# Altium schematic symbol library MainBoard.SCHLIB: 48 symbols
Pins are listed as number, name and electrical type; pins without a type are passive.

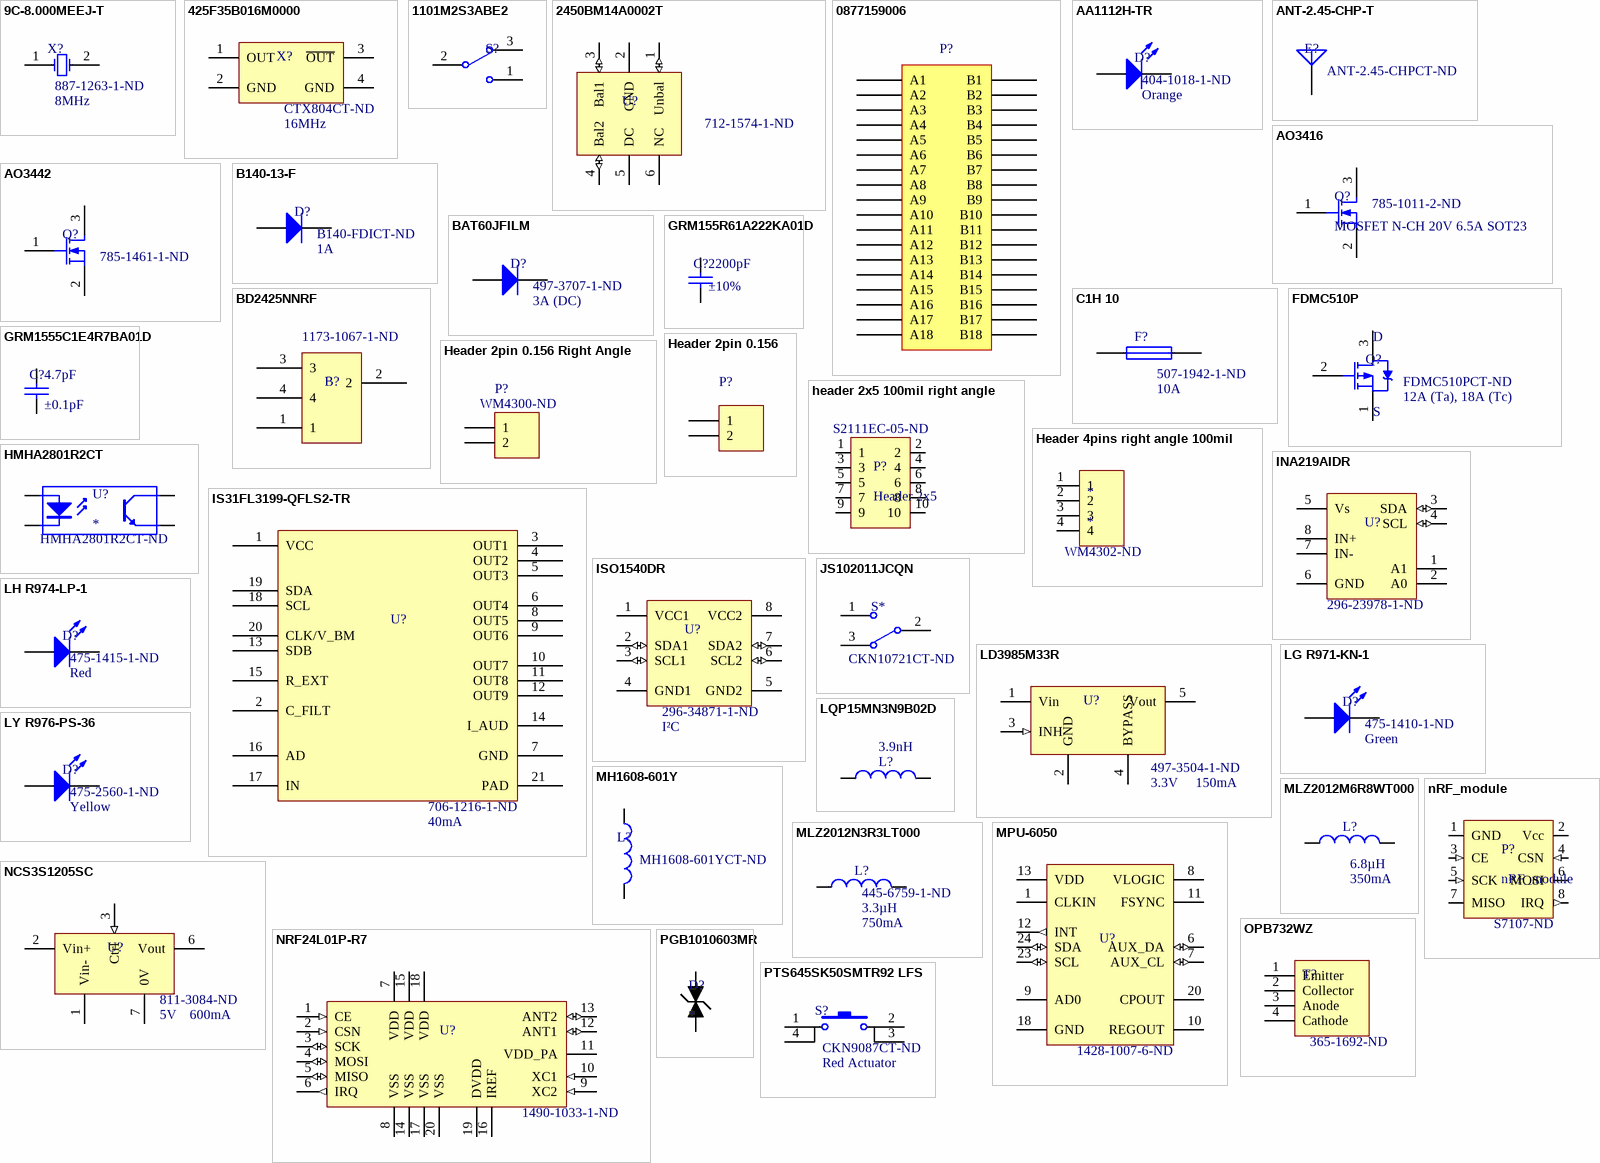
[diagram p0: symbols 9C-8.000MEEJ-T to PTS645SK50SMTR92 LFS]

## 9C-8.000MEEJ-T
designator X?  Supplier Part Number 1: 887-1263-1-ND  Frequency: 8MHz  (hidden comment: *)
CRYSTAL 8.0000MHZ 18PF SMD; Manufacturer: TXC CORPORATION; Manufacturer Part Number: 9C-8.000MEEJ-T; Frequency Stability: ±10ppm; ESR (Equivalent Series Resistance): 80 Ohm; Operating Mode: Fundamental; Supplier 1: Digi-Key; RoHS: RoHS Compliant; Category: Crystals and Oscillators; Stock 1: 25785; Pricing 1: 1=0.89, 10=0.749, 50=0.6746, 100=0.5996, 500=0.56958 (CAD); Packaging: Cut Tape (CT); Type: MHz Crystal; Frequency Tolerance: ±10ppm; Load Capacitance: 18pF; Operating Temperature: -20°C ~ 70°C; Ratings: -; Mounting Type: Surface Mount; Package / Case: HC49/US; Size / Dimension: 0.449" L x 0.189" W (11.40mm x 4.80mm); Height: 0.161" (4.10mm); ComponentLink1URL: http://www.txccrystal.com/images/pdf/9c-accuracy.pdf; ComponentLink1Description: http://www.txccrystal.com/images/pdf/9c-accuracy.pdf
footprint HC49/US (2-Leads, Body 11,40x4,35mm, IPC Medium Density)
pins: 1 OSC1, 2 OSC2

## 425F35B016M0000
designator X?  Supplier Part Number 1: CTX804CT-ND  Frequency: 16MHz  (hidden comment: *)
CRYSTAL 16.0000MHZ 13PF SMD; Manufacturer: CTS-Frequency Controls; Manufacturer Part Number: 425F35B016M0000; Frequency Stability: ±50ppm; Frequency Tolerance: ±30ppm; ESR (Equivalent Series Resistance): 100 Ohm; Operating Mode: Fundamental; Supplier 1: Digi-Key; RoHS: RoHS Compliant; Category: Crystals and Oscillators; Stock 1: 2963; Pricing 1: 1=1.41, 10=1.246, 50=1.1634, 100=1.0295, 500=0.97292, 750=0.92144, 1000=0.81334 (CAD); Packaging: Cut Tape (CT); Type: MHz Crystal; Load Capacitance: 13pF; Operating Temperature: -20°C ~ 70°C; Ratings: -; Mounting Type: Surface Mount; Package / Case: 4-SMD, No Lead (DFN, LCC); Size / Dimension: 0.098" L x 0.079" W (2.50mm x 2.00mm); Height: 0.026" (0.65mm); ComponentLink1URL: http://www.ctscorp.com/wp-content/uploads/2015/11/008-0332-0_B.pdf; ComponentLink1Description: http://www.ctscorp.com/wp-content/uploads/2015/11/008-0332-0_B.pdf
footprint QFN138P200X250X65-4N (QFN, 4-Leads, Body 2,00x2,50mm, Pitch 1,63mm/1,38mm, IPC Medium Density)
pins: 1 OUT (power), 2 GND (power), 3 ~{OUT} (power), 4 GND (power)

## 1101M2S3ABE2
designator S?  (value not drawn)
SWITCH SLIDE SPDT 0.4VA 20V; Manufacturer: C&K Components; Manufacturer Part Number: 1101M2S3ABE2; Contact Timing: Not Specified; Switch Function: On-On; Current Rating: 0.4VA (AC/DC); Actuator Type: Standard; Actuator Length: 4.72mm; Actuator Material: Polyamide (PA), Nylon; Switch Travel: 2.16mm; Electrical Life: 100,000 Cycles; Supplier 1: Digi-Key; RoHS: RoHS Compliant; Category: Switches; Stock 1: 1611; Pricing 1: 1=6.09, 10=5.952, 25=5.6872, 50=5.026, 100=4.9598, 250=4.89372, 500=4.034, 1000=3.76947, 5000=3.51818 (CAD); Packaging: Bulk; Part Status: Active; Circuit: SPDT; Voltage Rating - AC: 20V; Voltage Rating - DC: 20V; Contact Material: Copper; Contact Finish: Gold; Mounting Type: Through Hole, Right Angle; Termination Style: PC Pin; Features: Black Actuator, Epoxy Sealed Terminals; Operating Temperature: -30°C ~ 65°C; Mechanical Life: -; Operating Force: -; ComponentLink1URL: http://www.ck-components.com/media/1429/1000.pdf; ComponentLink1Description: http://www.ck-components.com/media/1429/1000.pdf; Supplier Part Number 1: CKN5005-ND
footprint C&K Switch
pins: 1, 2, 3

## 2450BM14A0002T
designator U?  Supplier Part Number 1: 712-1574-1-ND  (hidden comment: *)
NRF24L01 NRF24LE01 NRF8001 SMD; Manufacturer: Johanson Technology Inc.; Manufacturer Part Number: 2450BM14A0002T; Frequency Range: 2.4GHz ~ 2.5GHz; Impedance - Unbalanced/Balanced: 50 / - Ohm; Phase Difference: 160° ±15; Insertion Loss (Max): 2.0dB; Return Loss (Min): 9.5dB; Supplier 1: Digi-Key; RoHS: RoHS Compliant; Category: RF/IF and RFID; Stock 1: 6; Pricing 1: 1=1.41, 10=1.25, 25=1.1288, 100=0.9876, 250=0.8666, 500=0.76586, 1000=0.60462 (CAD); Packaging: Cut Tape (CT); Package / Case: 0603 (1608 Metric), 6 PC Pad; Mounting Type: Surface Mount; ComponentLink1URL: http://www.johansontechnology.com/datasheets/baluns/Balun_Filter_Matched_2450BM14A0002_v2.pdf; ComponentLink1Description: http://www.johansontechnology.com/datasheets/baluns/Balun_Filter_Matched_2450BM14A0002_v2.pdf
footprint LCCS50P160X80X70-6N (LCC, 6-Pins, Body 1,60x0,80mmx0,70mm, Pitch 0,50mm, IPC Medium Density)
pins: 1 Unbal (io), 2 GND (power), 3 Bal1 (io), 4 Bal2 (io), 5 DC (power), 6 NC

## 0877159006
designator P?  (value not drawn)
CONN PCI EXPRESS 36POS 1MM GOLD
footprint 0877159006 (PCI Express Edge Card Connector)
pins: A1, A2, A3, A4, A5, A6, A7, A8, A9, A10, A11, A12, A13, A14, A15, A16, A17, A18, B1, B2, B3, B4, B5, B6, B7, B8, B9, B10, B11, B12, B13, B14, B15, B16, B17, B18

## AA1112H-TR
designator D?  Supplier Part Number 1: 404-1018-1-ND  Color: Orange  (hidden comment: *)
LED ORANGE DIFFUSED 0805 SMD; Manufacturer: Stanley Electric Co; Manufacturer Part Number: AA1112H-TR; Lens Color: White; Millicandela Rating: 3.7mcd; Lens Style/Size: Rectangle with Flat Top, 1.20mm x 1.25mm; Voltage - Forward (Vf) (Typ): 2.2V; Current - Test: 20mA; Viewing Angle: 153°, 154°; Wavelength - Dominant: 606nm; Wavelength - Peak: 605nm; Supplier 1: Digi-Key; RoHS: RoHS Compliant; Category: Optoelectronics; Stock 1: 7828; Pricing 1: 1=0.65, 10=0.458, 25=0.3752, 100=0.3003, 250=0.2252, 1000=0.16379 (CAD); Packaging: Cut Tape (CT); Lens Transparency: Diffused; Mounting Type: Surface Mount; Features: -; Package / Case: 0805 (2012 Metric); Supplier Device Package: 2125; Size / Dimension: 2.00mm L x 1.25mm W; Height (Max): 0.90mm; ComponentLink1URL: http://media.digikey.com/pdf/Data%20Sheets/Stanley%20Electric%20PDFs/BR1112H.pdf; ComponentLink1Description: http://media.digikey.com/pdf/Data%20Sheets/Stanley%20Electric%20PDFs/BR1112H.pdf
footprint 0805 (Chip Capacitor, 2-Leads, Body 2,00x1,25mm, IPC Medium Density)
pins: 1 A, 2 K

## ANT-2.45-CHP-T
designator E?  Supplier Part Number 1: ANT-2.45-CHPCT-ND  (hidden comment: *)
ANT 2.4GHZ 802.11 BLUETOOTH SMD; Manufacturer: Linx Technologies Inc.; Manufacturer Part Number: ANT-2.45-CHP-T; Frequency Group: UHF (2 GHz ~ 3 GHz); Frequency Range: 2.36GHz ~ 2.54GHz; Antenna Type: Chip; Number of Bands: 1; VSWR: 2; Gain: 0.5dBi; Power - Max: 3W; Supplier 1: Digi-Key; RoHS: RoHS Compliant; Category: RF/IF and RFID; Stock 1: 30000; Pricing 1: 1=4.78, 10=4.317, 25=3.8676, 100=3.4774, 250=3.08772, 500=2.69802 (CAD); Packaging: Cut Tape (CT); Frequency (Center/Band): 2.4GHz; Return Loss: -; Features: -; Termination: Solder; Ingress Protection: -; Mounting Type: Surface Mount; Height (Max): 0.002" (0.04mm); Applications: Bluetooth, WLAN, Zigbee™; ComponentLink1URL: http://www.linxtechnologies.com/resources/data-guides/ant-xxx-chp-x.pdf; ComponentLink1Description: http://www.linxtechnologies.com/resources/data-guides/ant-xxx-chp-x.pdf
footprint ANT-2.45-CHP-x (Chip Antenna 2-Leads, Body 6,50x2,20mm, IPC Medium Density)
pins: 1 A

## AO3416
designator Q?, comment MOSFET N-CH 20V 6.5A SOT23  Supplier Part Number 1: 785-1011-2-ND
Supplier 1: Digi-Key
footprint SOT-23-3 (SOT23, 3-Leads, Body 2,90x2,45mm, Pitch 0,95mm, IPC Medium Density)
pins: 1 G, 2 S, 3 D

## AO3442
designator Q?  Supplier Part Number 1: 785-1461-1-ND  (hidden comment: *)
MOSFET N-CH 100V 1A SOT23; Manufacturer: Alpha & Omega Semiconductor Inc.; Manufacturer Part Number: AO3442; FET Type: MOSFET N-Channel, Metal Oxide; FET Feature: Standard; Current - Continuous Drain (Id) @ 25°C: 1A (Ta); Rds On (Max) @ Id, Vgs: 630 mOhm @ 1A, 10V; Vgs(th) (Max) @ Id: 2.9V @ 250µA; Gate Charge (Qg) @ Vgs: 6nC @ 10V; Input Capacitance (Ciss) @ Vds: 100pF @ 50V; Power - Max: 1.4W; Supplier 1: Digi-Key; RoHS: RoHS Compliant; Category: Discrete Semiconductor Products; Stock 1: 46021; Pricing 1: 1=0.75, 10=0.53, 25=0.4352, 100=0.3479, 250=0.25308, 500=0.20562, 1000=0.15816 (CAD); Packaging: Cut Tape (CT); Drain to Source Voltage (Vdss): 100V; Operating Temperature: -55°C ~ 150°C (TJ); Mounting Type: Surface Mount; Package / Case: TO-236-3, SC-59, SOT-23-3; Supplier Device Package: SOT-23-3L; ComponentLink1URL: http://aosmd.com/res/data_sheets/AO3442.pdf; ComponentLink1Description: http://aosmd.com/res/data_sheets/AO3442.pdf
footprint SOT-23-3 (SOT23, 3-Leads, Body 2,90x2,45mm, Pitch 0,95mm, IPC Medium Density)
pins: 1 G, 2 S, 3 D

## B140-13-F
designator D?  Supplier Part Number 1: B140-FDICT-ND  Current - Average Rectified (Io): 1A  (hidden comment: *)
DIODE SCHOTTKY 40V 1A SMA; Manufacturer: Diodes Incorporated; Manufacturer Part Number: B140-13-F; Voltage - Forward (Vf) (Max) @ If: 500mV @ 1A; Speed: Fast Recovery =< 500ns, > 200mA (Io); Current - Reverse Leakage @ Vr: 500µA @ 40V; Capacitance @ Vr, F: 110pF @ 4V, 1MHz; Supplier 1: Digi-Key; RoHS: RoHS Compliant; Category: Discrete Semiconductor Products; Stock 1: 278329; Pricing 1: 1=0.54, 10=0.441, 100=0.2337, 500=0.15366, 1000=0.1047 (CAD); Packaging: Cut Tape (CT); Diode Type: Schottky; Voltage - DC Reverse (Vr) (Max): 40V; Reverse Recovery Time (trr): -; Mounting Type: Surface Mount; Package / Case: DO-214AC, SMA; Supplier Device Package: SMA; Operating Temperature - Junction: -65°C ~ 150°C; ComponentLink1URL: http://www.diodes.com/_files/datasheets/ds13002.pdf; ComponentLink1Description: http://www.diodes.com/_files/datasheets/ds13002.pdf
footprint SMA (Molded Diode, 2-Leads, Body 4,30x2,60mm, IPC Medium Density)
pins: 1 A, 2 K

## BAT60JFILM
designator D?  Supplier Part Number 1: 497-3707-1-ND  Current - Average Rectified (Io): 3A (DC)  (hidden comment: *)
DIODE SCHOTTKY 10V 3A SOD323; Manufacturer: STMicroelectronics; Manufacturer Part Number: BAT60JFILM; Voltage - Forward (Vf) (Max) @ If: 580mV @ 1A; Speed: Fast Recovery =< 500ns, > 200mA (Io); Current - Reverse Leakage @ Vr: 6µA @ 10V; Supplier 1: Digi-Key; RoHS: RoHS Compliant; Category: Discrete Semiconductor Products; Stock 1: 29878; Pricing 1: 1=0.58, 10=0.434, 100=0.2451, 500=0.16256, 1000=0.12468 (CAD); Packaging: Cut Tape (CT); Diode Type: Schottky; Voltage - DC Reverse (Vr) (Max): 10V; Reverse Recovery Time (trr): -; Capacitance @ Vr, F: -; Mounting Type: Surface Mount; Package / Case: SC-76, SOD-323; Supplier Device Package: SOD-323; Operating Temperature - Junction: 150°C (Max); ComponentLink1URL: http://www.st.com/web/en/resource/technical/document/datasheet/CD00001944.pdf; ComponentLink1Description: http://www.st.com/web/en/resource/technical/document/datasheet/CD00001944.pdf
footprint SOD-323F (Molded Diode, 2-Leads, Body 1,70x1,25mm, IPC Medium Density)
pins: 1 A, 2 K

## BD2425NNRF
designator B?  Supplier Part Number 1: 1173-1067-1-ND  (hidden comment: *)
XFRMR BALUN RF 2400-2500MHZ 0404; Manufacturer: Anaren; Manufacturer Part Number: BD2425NNRF; Frequency Range: 2.4GHz ~ 2.525GHz; Impedance - Unbalanced/Balanced: 50 / - Ohm; Insertion Loss (Max): 1.25dB; Return Loss (Min): 18dB; Supplier 1: Digi-Key; RoHS: RoHS Compliant; Category: RF/IF and RFID; Stock 1: 7728; Pricing 1: 1=0.86, 10=0.838, 25=0.5604, 50=0.4992, 100=0.4572, 250=0.4102, 500=0.40166 (CAD); Packaging: Cut Tape (CT); Part Status: Active; Phase Difference: -; Package / Case: 0404 (1010 Metric); Mounting Type: Surface Mount; ComponentLink1URL: https://www.anaren.com/sites/default/files/BD2425NnRF%20Data%20Sheet%20Rev%20B_Final.pdf; ComponentLink1Description: https://www.anaren.com/sites/default/files/BD2425NnRF%20Data%20Sheet%20Rev%20B_Final.pdf
footprint BD2425NNRF
pins: 1, 2, 3, 4

## C1H 10
designator F?  Supplier Part Number 1: 507-1942-1-ND  Current Rating: 10A  (hidden comment: *)
FUSE BOARD MNT 10A 125VAC 32VDC; Manufacturer: Bel Fuse Inc.; Manufacturer Part Number: C1H 10; Fuse Type: Board Mount (Cartridge Style Excluded); Voltage Rating - AC: 125V; Voltage Rating - DC: 32V; Response Time: Fast; Breaking Capacity @ Rated Voltage: 150A; Melting I²t: 5.9; Approvals: cURus; DC Cold Resistance: 0.0039 Ohm; Supplier 1: Digi-Key; RoHS: RoHS Compliant; Category: Circuit Protection; Stock 1: 8694; Pricing 1: 1=0.47, 10=0.438, 25=0.4036, 100=0.363, 250=0.3232, 500=0.26932, 1000=0.25521, 2500=0.22828 (CAD); Packaging: Cut Tape (CT); Package / Case: 1206 (3216 Metric); Mounting Type: Surface Mount; Operating Temperature: -55°C ~ 125°C; Color: -; Size / Dimension: 0.126" L x 0.062" W x 0.026" H (3.20mm x 1.58mm x 0.65mm); ComponentLink1URL: http://belfuse.com/pdfs/C1H.pdf; ComponentLink1Description: http://belfuse.com/pdfs/C1H.pdf
footprint 1206 (Chip Resistor, 2-Leads, Body 3,20x1,58mm, IPC Medium Density)
pins: 1, 2

## FDMC510P
designator Q?  Supplier Part Number 1: FDMC510PCT-ND  Current - Continuous Drain (Id) @ 25°C: 12A (Ta), 18A (Tc)  (hidden comment: *)
MOSFET P-CH 20V 18A 8-MLP; Manufacturer: Fairchild Semiconductor; Manufacturer Part Number: FDMC510P; FET Type: MOSFET P-Channel, Metal Oxide; FET Feature: Standard; Rds On (Max) @ Id, Vgs: 8 mOhm @ 12A, 4.5V; Vgs(th) (Max) @ Id: 1V @ 250µA; Gate Charge (Qg) @ Vgs: 116nC @ 4.5V; Input Capacitance (Ciss) @ Vds: 7860pF @ 10V; Power - Max: 2.3W; Supplier 1: Digi-Key; RoHS: RoHS Compliant; Category: Discrete Semiconductor Products; Stock 1: 32424; Pricing 1: 1=2.03, 10=1.816, 100=1.4153, 500=1.17042, 1000=0.92559 (CAD); Packaging: Cut Tape (CT); Drain to Source Voltage (Vdss): 20V; Operating Temperature: -55°C ~ 150°C (TJ); Mounting Type: Surface Mount; Package / Case: 8-PowerWDFN; Supplier Device Package: 8-MLP (3.3x3.3); ComponentLink1URL: http://www.fairchildsemi.com/datasheets/FD/FDMC510P.pdf; ComponentLink1Description: http://www.fairchildsemi.com/datasheets/FD/FDMC510P.pdf
footprint PowerPAK 1212-8 (QFN, 10-Leads, Body 3,30x3,30mm, Pitch 0,65mm, Thermal Pad 2,11x2,11mm, IPC Medium Density)
pins: 1 S, 2 G, 3 D

## GRM155R61A222KA01D
designator C?  Tolerance: ±10%  Capacitance: 2200pF  (hidden comment: *)
CAP CER 2200PF 10V X5R 0402; Manufacturer: Murata Electronics North America; Manufacturer Part Number: GRM155R61A222KA01D; Supplier 1: Digi-Key; Supplier Part Number 1: 490-8251-1-ND; RoHS: RoHS Compliant; Category: Capacitors; Stock 1: 39963; Pricing 1: 1=0.14, 10=0.032, 50=0.0176, 100=0.0148, 250=0.01208, 500=0.01034, 1000=0.00805, 5000=0.00671 (CAD); Packaging: Cut Tape (CT); Part Status: Active; Voltage - Rated: 10V; Temperature Coefficient: X5R; Operating Temperature: -55°C ~ 85°C; Features: -; Ratings: -; Applications: General Purpose; Failure Rate: *; Mounting Type: Surface Mount, MLCC; Package / Case: 0402 (1005 Metric); Size / Dimension: 0.039" L x 0.020" W (1.00mm x 0.50mm); Height - Seated (Max): -; Thickness (Max): 0.022" (0.55mm); Lead Spacing: -; Lead Style: -; ComponentLink1URL: http://www.murata.com/~/media/webrenewal/support/library/catalog/products/capacitor/mlcc/c02e.pdf; ComponentLink1Description: http://www.murata.com/~/media/webrenewal/support/library/catalog/products/capacitor/mlcc/c02e.pdf
footprint 0402 (Chip Capacitor, Body 1.0x0.5mm, IPC High Density)
pins: 1, 2

## GRM1555C1E4R7BA01D
designator C?  Capacitance: 4.7pF  Tolerance: ±0.1pF  (hidden comment: *)
CAP CER 4.7PF 25V NP0 0402; Manufacturer: Murata Electronics North America; Manufacturer Part Number: GRM1555C1E4R7BA01D; Temperature Coefficient: C0G, NP0; Supplier 1: Digi-Key; Supplier Part Number 1: 490-8178-1-ND; RoHS: RoHS Compliant; Category: Capacitors; Stock 1: 59490; Pricing 1: 1=0.14, 10=0.061, 50=0.033, 100=0.028, 250=0.02288, 500=0.01958, 1000=0.01526, 5000=0.01271 (CAD); Packaging: Cut Tape (CT); Part Status: Active; Voltage - Rated: 25V; Operating Temperature: -55°C ~ 125°C; Features: -; Ratings: -; Applications: General Purpose; Failure Rate: *; Mounting Type: Surface Mount, MLCC; Package / Case: 0402 (1005 Metric); Size / Dimension: 0.039" L x 0.020" W (1.00mm x 0.50mm); Height - Seated (Max): -; Thickness (Max): 0.022" (0.55mm); Lead Spacing: -; Lead Style: -; ComponentLink1URL: http://www.murata.com/~/media/webrenewal/support/library/catalog/products/capacitor/mlcc/c02e.pdf; ComponentLink1Description: http://www.murata.com/~/media/webrenewal/support/library/catalog/products/capacitor/mlcc/c02e.pdf
footprint 0402 (Chip Capacitor, Body 1.0x0.5mm, IPC High Density)
pins: 1, 2

## Header 2pin 0.156
designator P?, comment Header 2  (value not drawn)
Header, 2-Pin, 0.156mil
footprint 0.156mil header (SOIC, 4-Leads, Body 2,60x4,55mm, Pitch 1,27mm, IPC Medium Density)
pins: 1, 2

## Header 2pin 0.156 Right Angle
designator P?, comment Supplier Part Number 1: WM4300-ND  (hidden comment: Header 2 Right Angle)
Header, 2-Pin, 0.156mil, Right Angle; Supplier 1: Digi-Key
footprint 0.156mil header right angle
pins: 1, 2

## header 2x5 100mil right angle
designator P?, comment Header 2x5  Supplier Part Number 2: S2111EC-05-ND
Header 10pins 2 rows 100mil right angle; Supplier 1: Digi-Key; Supplier 2: Digi-Key
footprint HDR2x5_Right_Angle (2x5 header 100mil right angle)
pins: 1, 2, 3, 4, 5, 6, 7, 8, 9, 10

## Header 4pins right angle 100mil
designator *  Supplier Part Number 1: WM4302-ND
Supplier 1: Digi-Key
footprint HDR1x4_Right_Angle (1x4 header 100mil right angle)
pins: 1, 2, 3, 4

## HMHA2801R2CT
designator U?  Supplier Part Number 1: HMHA2801R2CT-ND
OPTOISOLATOR 3.75KV TRANS 4-SO; Supplier 1: Digi-Key
footprint SOIC127P700X220-4N (SOIC, 4-Leads, Body 2,60x4,55mm, Pitch 1,27mm, IPC Medium Density)
pins: 1 A "Anode", 2 K "Cathode", 3 E "Emitter", 4 C "Collector"

## INA219AIDR
designator U?  Supplier Part Number 1: 296-23978-1-ND  (hidden comment: *)
IC CURRENT MONITOR 1% 8SOIC; Manufacturer: Texas Instruments; Manufacturer Part Number: INA219AIDR; Sensing Method: High-Side; Voltage - Input: 0 V ~ 26 V; Current - Output: 10mA; Supplier 1: Digi-Key; RoHS: RoHS Compliant; Category: Integrated Circuits (ICs); Stock 1: 4871; Pricing 1: 1=3.11, 10=2.795, 100=2.2419, 500=1.84266, 1000=1.27962 (CAD); Packaging: Cut Tape (CT); Function: Current Monitor; Accuracy: ±1%; Operating Temperature: -40°C ~ 125°C; Mounting Type: Surface Mount; Package / Case: 8-SOIC (0.154", 3.90mm Width); Supplier Device Package: 8-SOIC; ComponentLink1URL: http://www.ti.com/lit/ds/symlink/ina219.pdf; ComponentLink1Description: http://www.ti.com/lit/ds/symlink/ina219.pdf
footprint SOIC127P600X175-8N (SOIC, 8-Leads, Body 4,90x3,90mm, Pitch 1,27mm, IPC Medium Density)
pins: 1 A1, 2 A0, 3 SDA (io), 4 SCL (io), 5 Vs (power), 6 GND (power), 7 IN- (power), 8 IN+ (power)

## IS31FL3199-QFLS2-TR
designator U?  Current - Output / Channel: 40mA  Supplier Part Number 1: 706-1216-1-ND  (hidden comment: *)
IC LED DRIVER LIN DIM 40MA 20QFN; Manufacturer: ISSI, Integrated Silicon Solution Inc; Manufacturer Part Number: IS31FL3199-QFLS2-TR; Internal Switch(s): Yes; Number of Outputs: 9; Voltage - Supply (Min): 2.7V; Voltage - Supply (Max): 5.5V; Dimming: PWM; Supplier 1: Digi-Key; RoHS: RoHS Compliant; Category: Integrated Circuits (ICs); Stock 1: 2174; Pricing 1: 1=2.4, 10=2.134, 25=1.9272, 100=1.6863, 250=1.4798, 500=1.30778, 1000=1.03244 (CAD); Packaging: Cut Tape (CT); Type: Linear; Topology: -; Voltage - Output: -; Frequency: -; Applications: -; Operating Temperature: -40°C ~ 85°C (TA); Mounting Type: Surface Mount; Package / Case: 20-VFQFN Exposed Pad; Supplier Device Package: 20-QFN (3x3); ComponentLink1URL: http://www.issi.com/WW/pdf/31FL3199.pdf; ComponentLink1Description: http://www.issi.com/WW/pdf/31FL3199.pdf
footprint QFN40P300X300X80_HS-21N (QFN, 20-Leads, Body 3,00x3,00mm, Pitch 0,40mm, Thermal Pad 1,70x1,70mm, IPC Medium Density)
pins: 1 VCC, 2 C_FILT, 3 OUT1, 4 OUT2, 5 OUT3 "OUT2", 6 OUT4, 7 GND, 8 OUT5, 9 OUT6, 10 OUT7, 11 OUT8, 12 OUT9, 13 SDB, 14 I_AUD, 15 R_EXT, 16 AD, 17 IN, 18 SCL, 19 SDA, 20 CLK/V_BM, 21 PAD

## ISO1540DR
designator U?  Supplier Part Number 1: 296-34871-1-ND  Type: I²C  (hidden comment: *)
DGTL ISO 2.5KV 2CH I2C 8SOIC; Manufacturer: Texas Instruments; Manufacturer Part Number: ISO1540DR; Isolated Power: No; Number of Channels: 2; Inputs - Side 1/Side 2: 2/2; Channel Type: Bidirectional; Voltage - Isolation: 2500Vrms; Common Mode Transient Immunity (Min): 25kV/µs; Data Rate: 1Mbps; Pulse Width Distortion (Max): 80ns, 21ns; Voltage - Supply: 3 V ~ 5.5 V; Supplier 1: Digi-Key; RoHS: RoHS Compliant; Category: Isolators; Stock 1: 4991; Pricing 1: 1=6.98, 10=6.27, 100=5.1441, 500=4.3763, 1000=3.19905 (CAD); Packaging: Cut Tape (CT); Technology: Capacitive Coupling; Propagation Delay tpLH / tpHL (Max): -; Rise / Fall Time (Typ): -; Operating Temperature: -40°C ~ 125°C; Package / Case: 8-SOIC (0.154", 3.90mm Width); Supplier Device Package: 8-SOIC; ComponentLink1URL: http://www.ti.com/lit/ds/symlink/iso1540.pdf; ComponentLink1Description: http://www.ti.com/lit/ds/symlink/iso1540.pdf
footprint SOIC127P600X175-8N (SOIC, 8-Leads, Body 4,90x3,90mm, Pitch 1,27mm, IPC Medium Density)
pins: 1 VCC1 (power), 2 SDA1 (io), 3 SCL1 (io), 4 GND1 (power), 5 GND2 (power), 6 SCL2 (io), 7 SDA2 (io), 8 VCC2 (power)

## JS102011JCQN
designator S*  Supplier Part Number 1: CKN10721CT-ND  (hidden comment: *)
SWITCH SLIDE SPDT 300MA 6V; Manufacturer: C&K Components; Manufacturer Part Number: JS102011JCQN; Contact Timing: Not Specified; Switch Function: On-On; Current Rating: 300mA (DC); Actuator Type: Standard; Actuator Length: 2.00mm; Actuator Material: Polyamide (PA46), Nylon 4/6; Electrical Life: 5,000 Cycles; Supplier 1: Digi-Key; RoHS: RoHS Compliant; Category: Switches; Stock 1: 1803; Pricing 1: 1=0.9, 10=0.873, 25=0.8544, 50=0.7636, 100=0.7272, 250=0.70896, 500=0.59992 (CAD); Packaging: Cut Tape (CT); Part Status: Active; Circuit: SPDT; Voltage Rating - AC: -; Voltage Rating - DC: 6V; Contact Material: Copper Alloy; Contact Finish: Silver; Mounting Type: Surface Mount; Termination Style: J Lead; Features: -; Switch Travel: 2.00mm; Operating Temperature: -40°C ~ 85°C; Mechanical Life: -; Operating Force: -; ComponentLink1URL: http://www.ck-components.com/media/1422/js.pdf; ComponentLink1Description: http://www.ck-components.com/media/1422/js.pdf
footprint SPDT-SW (SOTFL, 3-Leads, Body 8,50x4,00mm, Pitch 2,50mm, IPC Medium Density)
pins: 1, 2, 3

## LD3985M33R
designator U?  Supplier Part Number 1: 497-3504-1-ND  Voltage - Output: 3.3V  Current - Output: 150mA  (hidden comment: *)
IC REG LDO 3.3V 0.15A SOT23-5; Manufacturer: STMicroelectronics; Manufacturer Part Number: LD3985M33R; Regulator Topology: Positive Fixed; Voltage - Dropout (Typical): 0.06V @ 150mA; Number of Regulators: 1; Voltage - Input: Up to 6V; Current - Limit (Min): 300mA; Supplier 1: Digi-Key; RoHS: RoHS Compliant; Category: Integrated Circuits (ICs); Stock 1: 6080; Pricing 1: 1=0.95, 10=0.815, 100=0.6081, 500=0.47766, 1000=0.36825 (CAD); Packaging: Cut Tape (CT); Operating Temperature: -40°C ~ 125°C; Mounting Type: Surface Mount; Package / Case: SC-74A, SOT-753; Supplier Device Package: SOT-23-5; ComponentLink1URL: http://www.st.com/web/en/resource/technical/document/datasheet/CD00003395.pdf; ComponentLink1Description: http://www.st.com/web/en/resource/technical/document/datasheet/CD00003395.pdf
footprint SOT-23-5 (SOT23, 5-Leads, Body 2,90x2,45mm, Pitch 0,95mm, IPC Medium Density)
pins: 1 Vin (power), 2 GND (power), 3 INH (in), 4 BYPASS, 5 Vout (power)

## LG R971-KN-1
designator D?  Supplier Part Number 1: 475-1410-1-ND  Color: Green  (hidden comment: *)
LED GREEN DIFFUSED 0805 SMD; Manufacturer: OSRAM Opto Semiconductors Inc.; Manufacturer Part Number: LG R971-KN-1; Lens Color: White; Millicandela Rating: 26.05mcd; Lens Style/Size: Rectangle with Flat Top, 1.30mm x 1.25mm; Voltage - Forward (Vf) (Typ): 2.2V; Current - Test: 20mA; Viewing Angle: 160°; Wavelength - Dominant: 570nm; Wavelength - Peak: 572nm; Supplier 1: Digi-Key; RoHS: RoHS Compliant; Category: Optoelectronics; Stock 1: 315869; Pricing 1: 1=0.37, 10=0.267, 25=0.1972, 100=0.141, 250=0.09588, 500=0.0846, 1000=0.06626 (CAD); Packaging: Cut Tape (CT); Lens Transparency: Diffused; Mounting Type: Surface Mount; Features: -; Package / Case: 0805 (2012 Metric); Supplier Device Package: *; Size / Dimension: 2.00mm L x 1.25mm W; Height (Max): 0.90mm; ComponentLink1URL: http://www.osram-os.com/Graphics/XPic9/00078860_0.pdf; ComponentLink1Description: http://www.osram-os.com/Graphics/XPic9/00078860_0.pdf
footprint 0805 (Chip Capacitor, 2-Leads, Body 2,00x1,25mm, IPC Medium Density)
pins: 1 A, 2 K

## LH R974-LP-1
designator D?  Supplier Part Number 1: 475-1415-1-ND  Color: Red  (hidden comment: *)
LED RED DIFFUSED 0805 SMD; Manufacturer: OSRAM Opto Semiconductors Inc.; Manufacturer Part Number: LH R974-LP-1; Lens Color: White; Millicandela Rating: 41mcd; Lens Style/Size: Rectangle with Flat Top, 1.30mm x 1.25mm; Voltage - Forward (Vf) (Typ): 1.8V; Current - Test: 20mA; Viewing Angle: 160°; Wavelength - Dominant: 645nm; Wavelength - Peak: 660nm; Supplier 1: Digi-Key; RoHS: RoHS Compliant; Category: Optoelectronics; Stock 1: 124060; Pricing 1: 1=0.37, 10=0.267, 25=0.1972, 100=0.141, 250=0.09588, 500=0.0846, 1000=0.06626 (CAD); Packaging: Cut Tape (CT); Lens Transparency: Diffused; Mounting Type: Surface Mount; Features: -; Package / Case: 0805 (2012 Metric); Supplier Device Package: *; Size / Dimension: 2.00mm L x 1.25mm W; Height (Max): 0.90mm; ComponentLink1URL: http://www.osram-os.com/Graphics/XPic8/00078869_0.pdf; ComponentLink1Description: http://www.osram-os.com/Graphics/XPic8/00078869_0.pdf
footprint 0805 (Chip Capacitor, 2-Leads, Body 2,00x1,25mm, IPC Medium Density)
pins: 1 A, 2 K

## LQP15MN3N9B02D
designator L?  Inductance: 3.9nH  (hidden comment: *)
FIXED IND 3.9NH 170MA 500 MOHM; Manufacturer: Murata Electronics North America; Manufacturer Part Number: LQP15MN3N9B02D; Type: Thin Film; Material - Core: Non-Magnetic; Tolerance: ±0.1nH; Shielding: Unshielded; DC Resistance (DCR): 500 mOhm Max; Q @ Freq: 13 @ 500MHz; Frequency - Self Resonant: 6GHz; Frequency - Test: 500MHz; Supplier 1: Digi-Key; Supplier Part Number 1: 490-1131-1-ND; RoHS: RoHS Compliant; Category: Inductors, Coils, Chokes; Stock 1: 40315; Pricing 1: 1=0.25, 10=0.236, 25=0.2124, 50=0.184, 100=0.1651, 250=0.15336, 500=0.14154, 750=0.13445, 1000=0.12266 (CAD); Packaging: Cut Tape (CT); Part Status: Active; Current Rating: 170mA; Current - Saturation: -; Ratings: -; Operating Temperature: -40°C ~ 85°C; Mounting Type: Surface Mount; Package / Case: 0402 (1005 Metric); Size / Dimension: 0.039" L x 0.020" W (1.00mm x 0.50mm); Height - Seated (Max): 0.018" (0.45mm); ComponentLink1URL: http://search.murata.co.jp/Ceramy/image/img/PDF/ENG/L0075S0084LQP15M.pdf; ComponentLink1Description: http://search.murata.co.jp/Ceramy/image/img/PDF/ENG/L0075S0084LQP15M.pdf
footprint 0402 (Chip Capacitor, Body 1.0x0.5mm, IPC High Density)
pins: 1, 2

## LY R976-PS-36
designator D?  Supplier Part Number 1: 475-2560-1-ND  Color: Yellow  (hidden comment: *)
LED YELLOW DIFFUSED 0805 SMD; Manufacturer: OSRAM Opto Semiconductors Inc.; Manufacturer Part Number: LY R976-PS-36; Lens Color: White; Millicandela Rating: 162.5mcd; Lens Style/Size: Rectangle with Flat Top, 1.30mm x 1.25mm; Voltage - Forward (Vf) (Typ): 2V; Current - Test: 20mA; Viewing Angle: 160°; Wavelength - Dominant: 588nm; Wavelength - Peak: 591nm; Supplier 1: Digi-Key; RoHS: RoHS Compliant; Category: Optoelectronics; Stock 1: 102790; Pricing 1: 1=0.38, 10=0.282, 25=0.2076, 100=0.1484, 250=0.10088, 500=0.08904, 1000=0.06974 (CAD); Packaging: Cut Tape (CT); Lens Transparency: Diffused; Mounting Type: Surface Mount; Features: -; Package / Case: 0805 (2012 Metric); Supplier Device Package: 0805; Size / Dimension: 2.00mm L x 1.25mm W; Height (Max): 0.90mm; ComponentLink1URL: http://www.osram-os.com/Graphics/XPic9/00078941_0.pdf; ComponentLink1Description: http://www.osram-os.com/Graphics/XPic9/00078941_0.pdf
footprint 0805 (Chip Capacitor, 2-Leads, Body 2,00x1,25mm, IPC Medium Density)
pins: 1 A, 2 K

## MH1608-601Y
designator L?  Supplier Part Number 1: MH1608-601YCT-ND  (hidden comment: *)
FERRITE BEAD 600 OHM 0603 1LN; Manufacturer: Bourns Inc.; Manufacturer Part Number: MH1608-601Y; Filter Type: Power, Signal Line; Number of Lines: 1; Impedance @ Frequency: 600 Ohm @ 100MHz; Current Rating (Max): 1A; DC Resistance (DCR) (Max): 200 mOhm; Supplier 1: Digi-Key; RoHS: RoHS Compliant; Category: Filters; Stock 1: 112010; Pricing 1: 1=0.14, 10=0.088, 25=0.0808, 50=0.0726, 100=0.0533, 250=0.03872, 500=0.03552, 1000=0.03067 (CAD); Packaging: Cut Tape (CT); Ratings: -; Operating Temperature: -55°C ~ 125°C; Package / Case: 0603 (1608 Metric); Mounting Type: Surface Mount; Height (Max): 0.039" (1.00mm); Size / Dimension: 0.063" L x 0.031" W (1.60mm x 0.80mm); ComponentLink1URL: http://www.bourns.com/docs/Product-Datasheets/mh.pdf; ComponentLink1Description: http://www.bourns.com/docs/Product-Datasheets/mh.pdf
footprint 0603 (Chip 2-Leads, Body 1,60x0,80mm, IPC Medium Density)
pins: 1, 2

## MLZ2012M6R8WT000
designator L?  Inductance: 6.8µH  Current Rating: 350mA  (hidden comment: *)
FIXED IND 6.8UH 350MA 400 MOHM; Manufacturer: TDK Corporation; Manufacturer Part Number: MLZ2012M6R8WT000; Type: Multilayer; Material - Core: Ferrite; Tolerance: ±20%; Current - Saturation: 220mA; Shielding: Shielded; DC Resistance (DCR): 520 mOhm Max; Frequency - Test: 2MHz; RoHS: RoHS Compliant; Category: Inductors, Coils, Chokes; Packaging: Tape & Reel (TR); Q @ Freq: -; Frequency - Self Resonant: -; Ratings: -; Operating Temperature: -55°C ~ 125°C; Mounting Type: Surface Mount; Package / Case: 0805 (2012 Metric); Size / Dimension: 0.079" L x 0.049" W (2.00mm x 1.25mm); Height - Seated (Max): 0.057" (1.45mm); ComponentLink1URL: https://product.tdk.com/info/en/catalog/datasheets/inductor_commercial_decoupling_mlz2012_en.pdf; ComponentLink1Description: https://product.tdk.com/info/en/catalog/datasheets/inductor_commercial_decoupling_mlz2012_en.pdf; Supplier 1: Digi-Key; Supplier Part Number 1: 445-6402-1-ND
footprint 0805 (Chip Capacitor, 2-Leads, Body 2,00x1,25mm, IPC Medium Density)
pins: 1, 2

## MLZ2012N3R3LT000
designator L?  Supplier Part Number 1: 445-6759-1-ND  Inductance: 3.3µH  Current Rating: 750mA  (hidden comment: *)
FIXED IND 3.3UH 750MA 150 MOHM; Manufacturer: TDK Corporation; Manufacturer Part Number: MLZ2012N3R3LT000; Type: Multilayer; Material - Core: Ferrite; Tolerance: ±20%; Current - Saturation: 130mA; Shielding: Shielded; DC Resistance (DCR): 195 mOhm Max; Frequency - Self Resonant: 90MHz; Frequency - Test: 2MHz; Supplier 1: Digi-Key; RoHS: RoHS Compliant; Category: Inductors, Coils, Chokes; Stock 1: 9368; Pricing 1: 1=0.21, 10=0.189, 50=0.1478, 100=0.1325, 500=0.11356, 1000=0.09841 (CAD); Packaging: Cut Tape (CT); Q @ Freq: -; Ratings: -; Operating Temperature: -55°C ~ 125°C; Mounting Type: Surface Mount; Package / Case: 0805 (2012 Metric); Size / Dimension: 0.079" L x 0.049" W (2.00mm x 1.25mm); Height - Seated (Max): 0.041" (1.05mm); ComponentLink1URL: https://product.tdk.com/info/en/catalog/datasheets/inductor_commercial_decoupling_mlz2012_en.pdf; ComponentLink1Description: https://product.tdk.com/info/en/catalog/datasheets/inductor_commercial_decoupling_mlz2012_en.pdf
footprint 0805 (Chip Capacitor, 2-Leads, Body 2,00x1,25mm, IPC Medium Density)
pins: 1, 2

## MPU-6050
designator U?  Supplier Part Number 1: 1428-1007-6-ND  (hidden comment: *)
GYRO/ACCELEROMETER 6AXIS 24QFN; Manufacturer: InvenSense; Sensor Type: Accelerometer, Gyroscope, 3 Axis; Output Type: I²C; Supplier 1: Digi-Key; Manufacturer Part Number: MPU-6050; RoHS: RoHS Compliant; Category: Sensors, Transducers; Stock 1: 15335; Pricing 1: 1=11.73, 5=10.282, 10=9.254, 25=8.2264, 50=7.6094, 100=6.5812, 500=6.1699, 1000=5.75857 (CAD); Operating Temperature: -40°C ~ 85°C (TA); ComponentLink1URL: http://store.invensense.com/datasheets/invensense/MPU-6050_DataSheet_V3%204.pdf; ComponentLink1Description: http://store.invensense.com/datasheets/invensense/MPU-6050_DataSheet_V3%204.pdf
footprint VQFN-24 (QFN, 24-Leads, Body 4,00x4,00mm, Pitch 0,50mm, Thermal Pad 2,45x2,45mm, IPC Medium Density)
pins: 1 CLKIN "Optional external reference clock input. Connect to GND if unused.", 6 AUX_DA (io) "2C master serial data, for connecting to external sensors", 7 AUX_CL (io) "2C master serial data, for connecting to external sensors", 8 VLOGIC (power) "Digital I/O supply voltage", 9 AD0 "2C Slave Address LSB", 10 REGOUT "Regulator filter capacitor connection", 11 FSYNC "Frame synchronization digital input. Connect to GND if unused.", 12 INT (out) "Interrupt digital output (totem pole or open-drain)", 13 VDD (power) "Power supply voltage and Digital I/O supply voltage", 18 GND (power) "Power supply ground", 20 CPOUT "Charge pump capacitor connection", 23 SCL (io) "I2C serial clock (SCL)", 24 SDA (io) "I2C serial data (SDA)"

## NCS3S1205SC
designator U?  Supplier Part Number 1: 811-3084-ND  Voltage - Output 1: 5V  Current - Output (Max): 600mA  (hidden comment: *)
DC/DC CONVERTER 5V 3W; Manufacturer: Murata Power Solutions Inc.; Manufacturer Part Number: NCS3S1205SC; Number of Outputs: 1; Voltage - Input (Min): 9V; Voltage - Input (Max): 36V; Voltage - Isolation: 1.5kV (1500V); Efficiency: 82%; Supplier 1: Digi-Key; RoHS: RoHS Compliant; Category: Power Supplies - Board Mount; Stock 1: 0; Pricing 1: 1=15.64, 5=15.568, 10=15.455, 25=15.2844, 50=14.9004, 100=14.1611, 250=13.2512, 500=12.35548, 1000=12.29145 (CAD); Packaging: Tube; Type: Isolated Module; Voltage - Output 2: -; Voltage - Output 3: -; Power (Watts) - Manufacture Series: 3W; Applications: ITE (Commercial); Features: SCP; Mounting Type: Through Hole; Package / Case: 8-DIP Module (6 Leads); Size / Dimension: 0.86" L x 0.37" W x 0.44" H (22.0mm x 9.5mm x 11.3mm); Operating Temperature: -40°C ~ 85°C; Power (Watts) - Max: 3W; ComponentLink1URL: http://power.murata.com/data/power/ncl/kdc_ncs3.pdf; ComponentLink1Description: http://power.murata.com/data/power/ncl/kdc_ncs3.pdf
footprint NCS3S (8-DIP Module)
pins: 1 Vin- (power), 2 Vin+ (power), 3 Ctrl (in), 6 Vout (power), 7 0V (power)

## NRF24L01P-R7
designator U?  Supplier Part Number 1: 1490-1033-1-ND  (hidden comment: *)
IC RF TXRX ISM>1GHZ 20-VFQFN; Manufacturer: Nordic Semiconductor ASA; Manufacturer Part Number: NRF24L01P-R7; RF Family/Standard: General ISM > 1GHZ; Modulation: GFSK; Frequency: 2.4GHz; Data Rate (Max): 2Mbps; Power - Output: 0dBm; Sensitivity: -94dBm; Serial Interfaces: SPI; Voltage - Supply: 1.9 V ~ 3.6 V; Current - Receiving: 12.6mA ~ 13.5mA; Current - Transmitting: 7mA ~ 11.3mA; Supplier 1: Digi-Key; RoHS: RoHS Compliant; Category: RF/IF and RFID; Stock 1: 9292; Pricing 1: 1=5.02, 10=4.479, 25=4.0312, 100=3.6725, 250=3.3142, 500=2.97384 (CAD); Packaging: Cut Tape (CT); Type: TxRx Only; Protocol: -; Memory Size: -; GPIO: -; Operating Temperature: -40°C ~ 85°C; Package / Case: 20-VFQFN Exposed Pad; ComponentLink1URL: http://www.nordicsemi.com/eng/content/download/2726/34069/file/nRF24L01P_Product_Specification_1_0.pdf; ComponentLink1Description: http://www.nordicsemi.com/eng/content/download/2726/34069/file/nRF24L01P_Product_Specification_1_0.pdf
footprint QFN40P300X300X80_HS-21N (QFN, 20-Leads, Body 3,00x3,00mm, Pitch 0,40mm, Thermal Pad 1,70x1,70mm, IPC Medium Density)
pins: 1 CE (in), 2 CSN (in), 3 SCK (io), 4 MOSI (io), 5 MISO (io), 6 IRQ (out), 7 VDD (power), 8 VSS (power), 9 XC2 (in), 10 XC1 (in), 11 VDD_PA, 12 ANT1 (io), 13 ANT2 (io), 14 VSS (power), 15 VDD (power), 16 IREF, 17 VSS (power), 18 VDD (power), 19 DVDD, 20 VSS (power)

## nRF_module
designator P?  Supplier Part Number 1: S7107-ND
2x4 100mil header; Supplier 1: Digi-Key
footprint nRF_connector
pins: 1 GND (power), 2 Vcc (power), 3 CE (in), 4 CSN (in), 5 SCK (in), 6 MOSI (io), 7 MISO (io), 8 IRQ (out)

## OPB732WZ
designator T?  Supplier Part Number 1: 365-1692-ND  (hidden comment: *)
SNSR OPTO TRANS 76.2MM REFL C-MT; Manufacturer: TT Electronics/Optek Technology; Manufacturer Part Number: OPB732WZ; Sensing Distance: 3" (76.2mm); Sensing Method: Reflective; Voltage - Collector Emitter Breakdown (Max): 30V; Current - Collector (Ic) (Max): 50mA; Output Type: Phototransistor; Supplier 1: Digi-Key; RoHS: RoHS Compliant; Category: Sensors, Transducers; Stock 1: 1115; Pricing 1: 1=6.54, 100=6.2843, 250=6.04264, 500=5.81512, 1000=5.6161, 2500=5.41704, 5000=5.2322 (CAD); Packaging: Bulk; Current - DC Forward (If) (Max): 50mA; Response Time: -; Mounting Type: Chassis Mount; Package / Case: Module, Pre-Wired; Operating Temperature: -40°C ~ 85°C; ComponentLink1URL: http://www.optekinc.com/datasheets/OPB732.PDF; ComponentLink1Description: http://www.optekinc.com/datasheets/OPB732.PDF
pins: 1 Emitter, 2 Collector, 3 Anode (power), 4 Cathode (power)

## PGB1010603MR
designator D?
TVS DIODE 24VWM 150VC 0603; Supplier 1: Digi-Key; Supplier Part Number 1: F2594TR-ND
footprint 0603 (Chip 2-Leads, Body 1,60x0,80mm, IPC Medium Density)
pins: 1, 2

## PTS645SK50SMTR92 LFS
designator S?  Supplier Part Number 1: CKN9087CT-ND  Features: Red Actuator  (hidden comment: *)
SWITCH TACTILE SPST-NO 0.05A 12V; Manufacturer: C&K Components; Manufacturer Part Number: PTS645SK50SMTR92 LFS; Switch Function: Off-Mom; Contact Rating @ Voltage: 0.05A @ 12VDC; Actuator Type: Standard; Actuator Height off PCB, from Pins: 5.00mm; Actuator Orientation: Top Actuated; Outline: 6.00mm x 6.00mm; Illumination: Non-Illuminated; Operating Force: 260gf; Actuator Material: Polyamide (PA66), Nylon 6/6; Mechanical Life: 100,000 Cycles; Supplier 1: Digi-Key; RoHS: RoHS Compliant; Category: Switches; Stock 1: 73782; Pricing 1: 1=0.38, 10=0.362, 25=0.35, 50=0.3374, 100=0.3186, 250=0.29976, 500=0.2873 (CAD); Packaging: Cut Tape (CT); Circuit: SPST-NO; Mounting Type: Surface Mount; Termination Style: Gull Wing; Illumination Voltage (Nominal): -; Illumination Type, Color: -; Ingress Protection: -; Switch Travel: -; Operating Temperature: -20°C ~ 60°C; ComponentLink1URL: http://media.digikey.com/pdf/Data%20Sheets/C&K/PTS645_Series.pdf; ComponentLink1Description: http://media.digikey.com/pdf/Data%20Sheets/C&K/PTS645_Series.pdf
footprint 6 mm Tact Switches (SOP, 4-Leads, Body 6,20x6,20mm, Pitch 4,50mm, IPC Medium Density)
pins: 1, 2, 3, 4

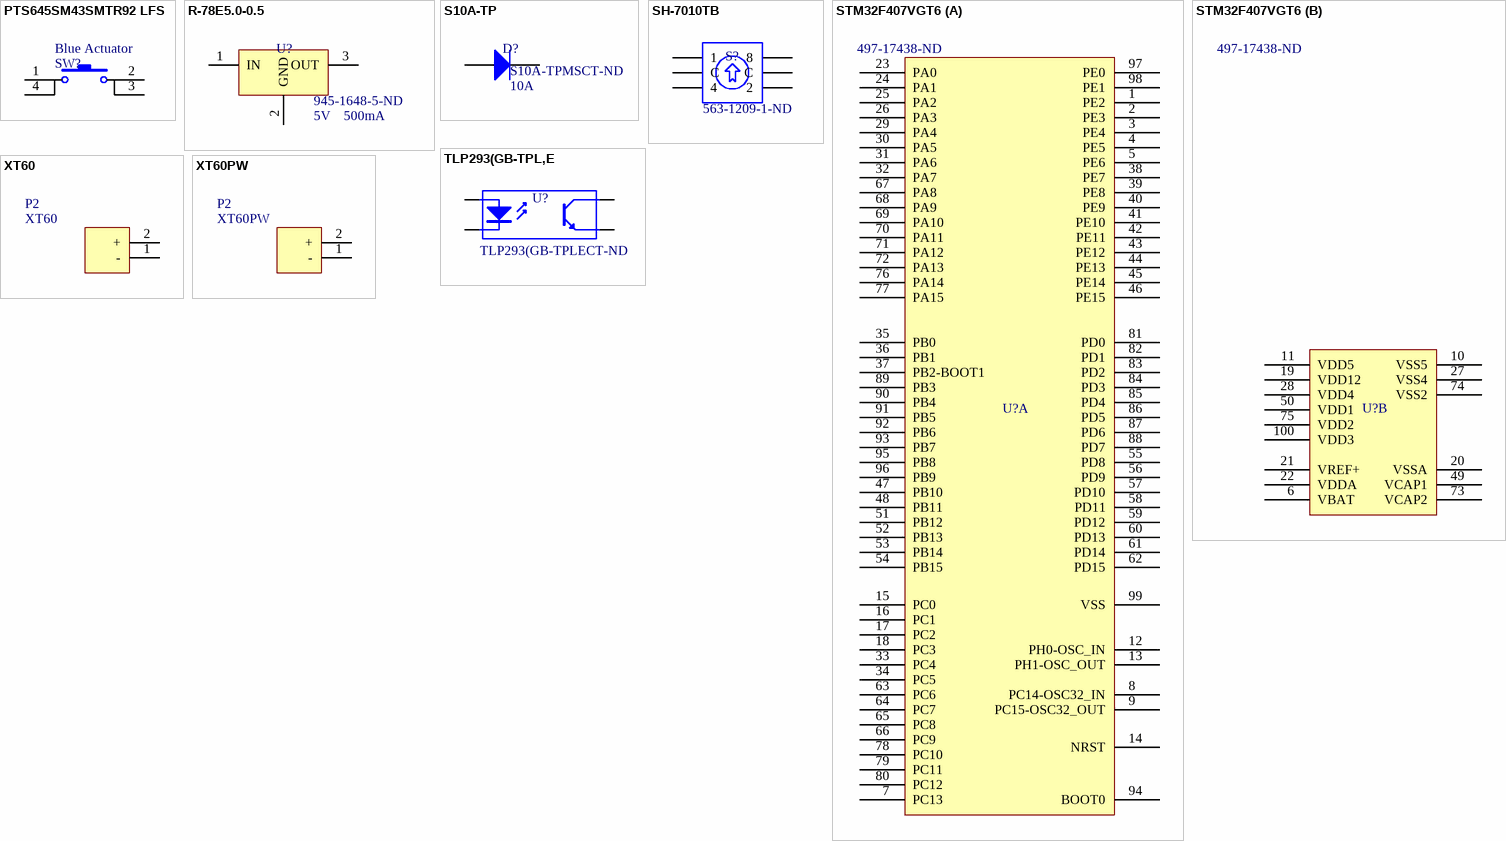
[diagram p1: symbols PTS645SM43SMTR92 LFS to XT60PW]

## PTS645SM43SMTR92 LFS
designator SW?  Features: Blue Actuator  (hidden comment: *)
SWITCH TACTILE SPST-NO 0.05A 12V; Manufacturer: C&K Components; Manufacturer Part Number: PTS645SM43SMTR92 LFS; Switch Function: Off-Mom; Contact Rating @ Voltage: 0.05A @ 12VDC; Actuator Type: Standard; Actuator Height off PCB, from Pins: 4.30mm; Actuator Orientation: Top Actuated; Outline: 6.00mm x 6.00mm; Illumination: Non-Illuminated; Operating Force: 160gf; Actuator Material: Polyamide (PA66), Nylon 6/6; Mechanical Life: 100,000 Cycles; Supplier 1: Digi-Key; Supplier Part Number 1: CKN9112CT-ND; RoHS: RoHS Compliant; Category: Switches; Stock 1: 189506; Pricing 1: 1=0.44, 10=0.425, 25=0.4108, 50=0.3958, 100=0.3737, 250=0.35176, 500=0.33708 (CAD); Packaging: Cut Tape (CT); Circuit: SPST-NO; Mounting Type: Surface Mount; Termination Style: Gull Wing; Illumination Voltage (Nominal): -; Illumination Type, Color: -; Ingress Protection: -; Switch Travel: -; Operating Temperature: -20°C ~ 60°C; ComponentLink1URL: http://media.digikey.com/pdf/Data%20Sheets/C&K/PTS645_Series.pdf; ComponentLink1Description: http://media.digikey.com/pdf/Data%20Sheets/C&K/PTS645_Series.pdf
footprint 6 mm Tact Switches (SOP, 4-Leads, Body 6,20x6,20mm, Pitch 4,50mm, IPC Medium Density)
pins: 1, 2, 3, 4

## R-78E5.0-0.5
designator U?  Supplier Part Number 1: 945-1648-5-ND  Voltage - Output 1: 5V  Current - Output (Max): 500mA  (hidden comment: *)
CONV DC/DC 5V 500MA OUT THRU; Manufacturer: Recom Power; Manufacturer Part Number: R-78E5.0-0.5; Power (Watts) - Manufacture Series: 3W; Number of Outputs: 1; Voltage - Input (Min): 7V; Voltage - Input (Max): 28V; Efficiency: 92%; Supplier 1: Digi-Key; RoHS: RoHS Compliant; Category: Power Supplies - Board Mount; Stock 1: 5464; Pricing 1: 1=4.04, 5=3.972, 10=3.916, 50=3.6854, 100=3.5701, 250=3.45496 (CAD); Packaging: Tube; Type: Linear Regulator Replacement; Voltage - Output 2: -; Voltage - Output 3: -; Voltage - Isolation: -; Applications: ITE (Commercial); Features: -; Mounting Type: Through Hole; Package / Case: 3-SIP Module; Size / Dimension: 0.46" L x 0.33" W x 0.41" H (11.6mm x 8.5mm x 10.4mm); Operating Temperature: -40°C ~ 85°C; Power (Watts) - Max: 3W; ComponentLink1URL: http://www.recom-power.com/pdf/Innoline/R-78Exx-0.5.pdf; ComponentLink1Description: http://www.recom-power.com/pdf/Innoline/R-78Exx-0.5.pdf
footprint 3-SIP MOdule (SOIC, 4-Leads, Body 2,60x4,55mm, Pitch 1,27mm, IPC Medium Density)
pins: 1 IN (power), 2 GND (power), 3 OUT (power)

## S10A-TP
designator D?  Supplier Part Number 1: S10A-TPMSCT-ND  Current - Average Rectified (Io): 10A  (hidden comment: *)
DIODE GEN PURP 50V 10A DO214AB; Manufacturer: Micro Commercial Co; Manufacturer Part Number: S10A-TP; Diode Type: Standard; Voltage - Forward (Vf) (Max) @ If: 1.2V @ 10A; Speed: Standard Recovery >500ns, > 200mA (Io); Current - Reverse Leakage @ Vr: 10µA @ 50V; Supplier 1: Digi-Key; RoHS: RoHS Compliant; Category: Discrete Semiconductor Products; Stock 1: 16594; Pricing 1: 1=0.88, 10=0.769, 25=0.6808, 100=0.5932, 250=0.51624, 500=0.43934 (CAD); Packaging: Cut Tape (CT); Voltage - DC Reverse (Vr) (Max): 50V; Reverse Recovery Time (trr): -; Capacitance @ Vr, F: -; Mounting Type: Surface Mount; Package / Case: DO-214AB, SMC; Supplier Device Package: DO-214AB, (SMC); Operating Temperature - Junction: -55°C ~ 150°C; ComponentLink1URL: http://www.mccsemi.com/up_pdf/S10A~S10M(HSMC).PDF; ComponentLink1Description: http://www.mccsemi.com/up_pdf/S10A~S10M(HSMC).PDF
footprint SMC (Molded Diode, 2-Leads, Body 7,95x5,90mm, IPC Medium Density)
pins: 1 A, 2 K

## SH-7010TB
designator S?  Supplier Part Number 1: 563-1209-1-ND  (hidden comment: *)
SWITCH ROTARY DIP BCD 100MA 5V; Manufacturer: Copal Electronics Inc.; Manufacturer Part Number: SH-7010TB; Number of Positions: 10; Voltage Rating: 5VDC; Actuator Type: Rotary for Tool; Actuator Level: Flush, Recessed; Pitch: 0.100" (2.54mm), Full; Washable: Yes; Body Material: Polyphenylene Sulfide (PPS); Electrical Life: 10,000 Steps; Supplier 1: Digi-Key; RoHS: RoHS Compliant; Category: Switches; Stock 1: 18527; Pricing 1: 1=2.91, 10=2.798, 25=2.554, 50=2.4326, 100=2.1893, 250=2.00688 (CAD); Packaging: Cut Tape (CT); Circuit: BCD; Current Rating: 100mA; Contact Material: Copper Alloy; Contact Finish: Gold; Height Above Board: 0.148" (3.75mm); Mounting Type: Surface Mount; Termination Style: Gull Wing; Features: -; Length: 0.287" (7.30mm); Operating Temperature: -40°C ~ 85°C; Mechanical Life: -; ComponentLink1URL: http://www.nidec-copal-electronics.com/e/catalog/switch/sh-7000.pdf; ComponentLink1Description: http://www.nidec-copal-electronics.com/e/catalog/switch/sh-7000.pdf
footprint RotarySwitch (SOP, 4-Leads, Body 6,20x6,20mm, Pitch 4,50mm, IPC Medium Density)
pins: 1, 2 C, 3 4, 4 2, 5 C, 6 8

## STM32F407VGT6
designator U?  Supplier Part Number 1: 497-17438-ND  (hidden comment: *)
IC MCU 32BIT 1MB FLASH 100LQFP; Manufacturer: STMicroelectronics; Manufacturer Part Number: STM32F407VGT6; Core Processor: ARM® Cortex®-M4; Core Size: 32-Bit; Speed: 168MHz; Connectivity: CAN, DCMI, EBI/EMI, Ethernet, I²C, IrDA, LIN, SPI, UART/USART, USB OTG; Peripherals: Brown-out Detect/Reset, DMA, I²S, LCD, POR, PWM, WDT; Number of I/O: 82; Program Memory Size: 1MB (1M x 8); RAM Size: 192K x 8; Voltage - Supply (Vcc/Vdd): 1.8 V ~ 3.6 V; Data Converters: A/D 16x12b, D/A 2x12b; Oscillator Type: Internal; RoHS: RoHS Compliant; Category: Integrated Circuits (ICs); Packaging: Tray; Program Memory Type: FLASH; EEPROM Size: -; Operating Temperature: -40°C ~ 85°C (TA); Package / Case: 100-LQFP; Supplier Device Package: 100-LQFP (14x14); ComponentLink1URL: http://www.st.com/web/en/resource/technical/document/datasheet/DM00037051.pdf; ComponentLink1Description: http://www.st.com/web/en/resource/technical/document/datasheet/DM00037051.pdf; Supplier 1: Digi-Key
footprint TSQFP50P1600X1600X160-100N (TSQFP, 100-Leads, Body 14,00x13,95mm, Pitch 0,50mm, IPC Medium Density)
part A pins: 1 PE2, 2 PE3, 3 PE4, 4 PE5, 5 PE6, 7 PC13, 8 PC14-OSC32_IN, 9 PC15-OSC32_OUT, 12 PH0-OSC_IN, 13 PH1-OSC_OUT, 14 NRST, 15 PC0, 16 PC1, 17 PC2, 18 PC3, 23 PA0, 24 PA1, 25 PA2, 26 PA3, 29 PA4, 30 PA5, 31 PA6, 32 PA7, 33 PC4, 34 PC5, 35 PB0, 36 PB1, 37 PB2-BOOT1, 38 PE7, 39 PE8, 40 PE9, 41 PE10, 42 PE11, 43 PE12, 44 PE13, 45 PE14, 46 PE15, 47 PB10, 48 PB11, 51 PB12, 52 PB13, 53 PB14, 54 PB15, 55 PD8, 56 PD9, 57 PD10, 58 PD11, 59 PD12, 60 PD13, 61 PD14, 62 PD15, 63 PC6, 64 PC7, 65 PC8, 66 PC9, 67 PA8, 68 PA9, 69 PA10, 70 PA11, 71 PA12, 72 PA13, 76 PA14, 77 PA15, 78 PC10, 79 PC11, 80 PC12, 81 PD0, 82 PD1, 83 PD2, 84 PD3, 85 PD4, 86 PD5, 87 PD6, 88 PD7, 89 PB3, 90 PB4, 91 PB5, 92 PB6, 93 PB7, 94 BOOT0, 95 PB8, 96 PB9, 97 PE0, 98 PE1, 99 VSS (power)
part B pins: 6 VBAT (power), 10 VSS5 (power), 11 VDD5 (power), 19 VDD12 (power), 20 VSSA (power), 21 VREF+ (power), 22 VDDA (power), 27 VSS4 (power), 28 VDD4 (power), 49 VCAP1 (power), 50 VDD1 (power), 73 VCAP2 (power), 74 VSS2 (power), 75 VDD2 (power), 100 VDD3 (power)

## TLP293(GB-TPL,E
designator U?  Supplier Part Number 1: TLP293(GB-TPLECT-ND  (hidden comment: *)
OPTOISOLATOR 3.75KV TRANS 4-SO; Manufacturer: Toshiba Semiconductor and Storage; Manufacturer Part Number: TLP293(GB-TPL,E; Number of Channels: 1; Voltage - Isolation: 3750Vrms; Current Transfer Ratio (Min): 100% @ 5mA; Current Transfer Ratio (Max): 600% @ 5mA; Turn On / Turn Off Time (Typ): 3µs, 3µs; Rise / Fall Time (Typ): 2µs, 3µs; Input Type: DC; Output Type: Transistor; Voltage - Output (Max): 80V; Current - Output / Channel: 50mA; Voltage - Forward (Vf) (Typ): 1.25V; Vce Saturation (Max): 300mV; Supplier 1: Digi-Key; RoHS: RoHS Compliant; Category: Isolators; Stock 1: 34284; Pricing 1: 1=0.74, 10=0.536, 25=0.438, 100=0.3503, 250=0.29564, 500=0.2518, 1000=0.19706 (CAD); Packaging: Cut Tape (CT); Current - DC Forward (If) (Max): 50mA; Operating Temperature: -55°C ~ 125°C; Mounting Type: Surface Mount; Package / Case: 4-SOIC (0.179", 4.55mm); Supplier Device Package: 4-SO; ComponentLink1URL: https://toshiba.semicon-storage.com/info/docget.jsp?did=14419&prodName=TLP293; ComponentLink1Description: https://toshiba.semicon-storage.com/info/docget.jsp?did=14419&prodName=TLP293
footprint SOIC127P700X220-4N (SOIC, 4-Leads, Body 2,60x4,55mm, Pitch 1,27mm, IPC Medium Density)
pins: 1 A "Anode", 2 K "Cathode", 3 E "Emitter", 4 C "Collector"

## XT60
designator P2
Header, 2-Pin
footprint xt60
pins: 1 -, 2 +

## XT60PW
designator P2
XT60PW connector
footprint XT60PW
footprint XT60
pins: 1 -, 2 +